# Altium schematic symbol library LVS Library.SchLib: 61 symbols (part 3 of 3)
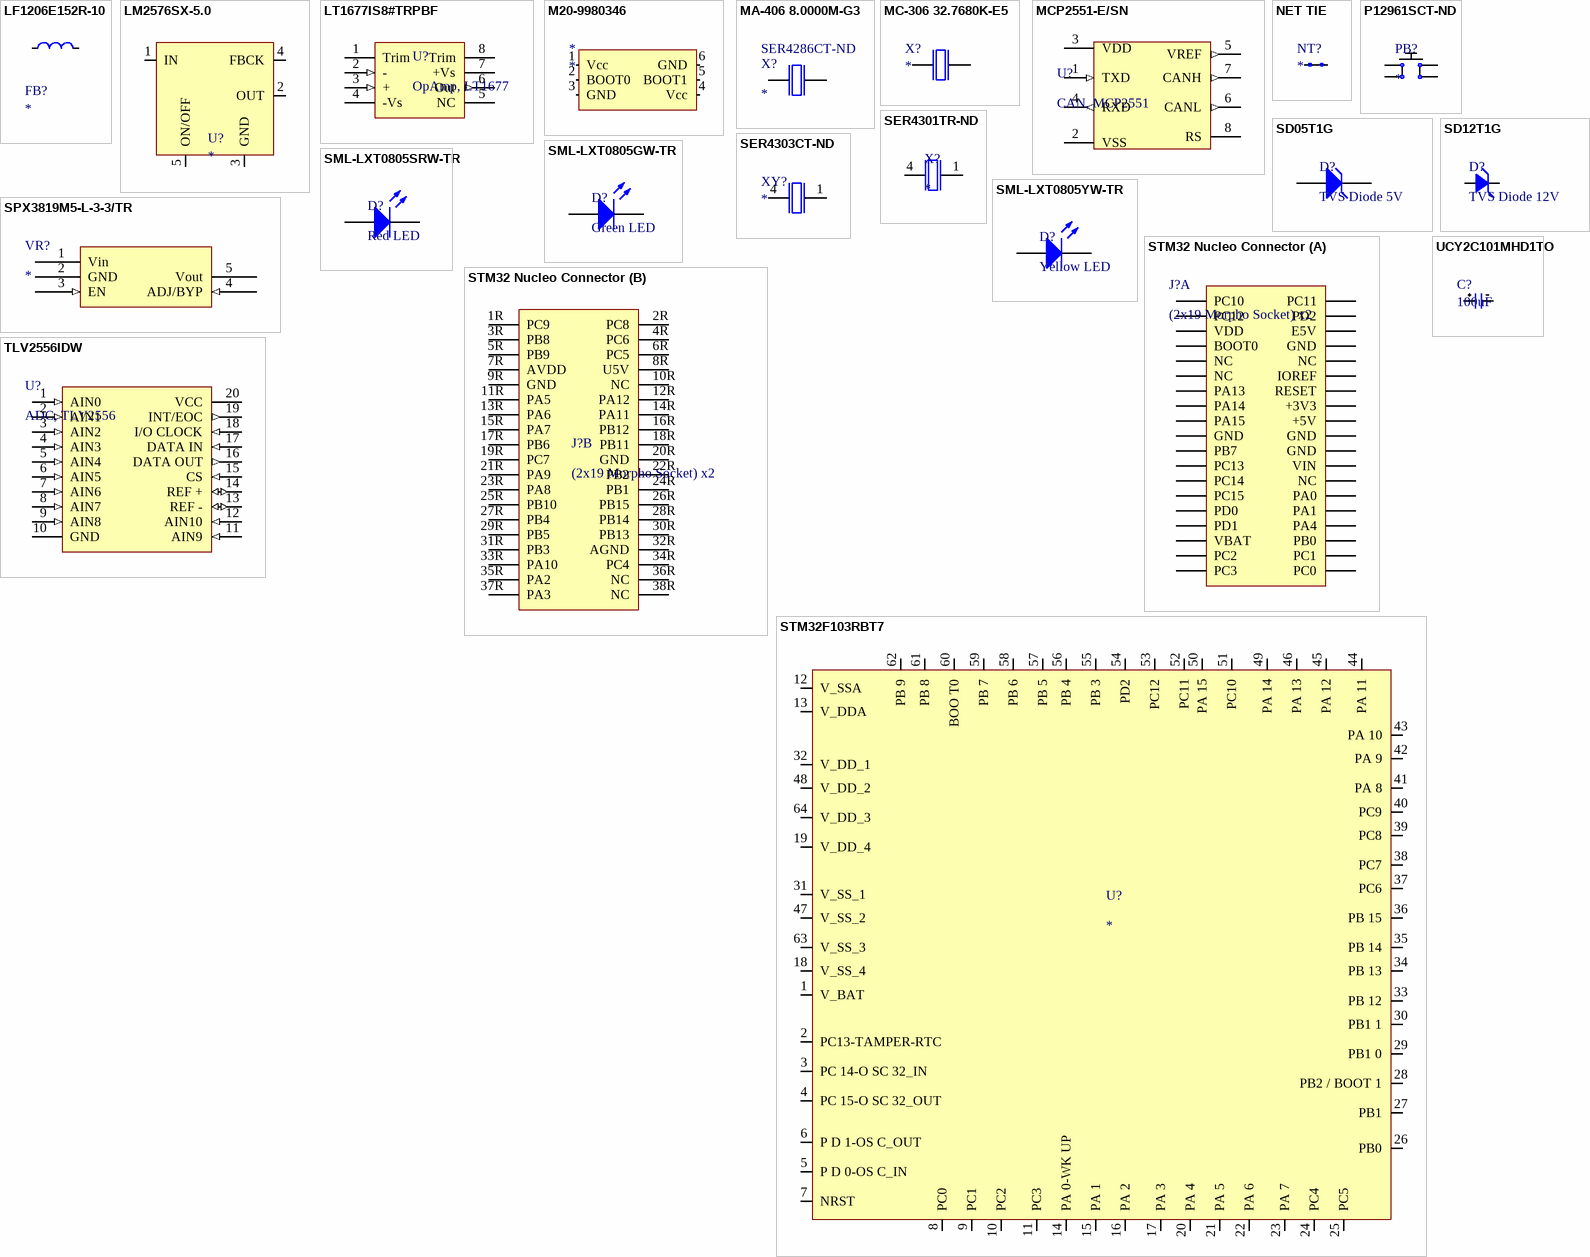
[diagram p3: symbols LF1206E152R-10 to UCY2C101MHD1TO]

## STM32 Nucleo Connector
designator J?, comment (2x19 Morpho Socket) x2
SAMTEC         ESQ-119-24-T-D             Board-To-Board Connector, Vertical, ESQ Series, 38 Contacts, Receptacle, 2.54 mm, Through Hole 123; Number of Contacts: 38; Pitch: 2.54mm; Supplier 1: Digi-Key; Supplier Part Number 1: SAM9313-ND; Manufacturer: Samtec; Manufacturer Part Number: ESQ-119-24-T-D; Stock 1: 71; Pricing 1: 1 = 5.23000, 11 = 4.42182, 110 = 3.41700, 506 = 2.81399, 1001 = 2.61300 (USD); RoHS: Yes; Mount: Through Hole; Contact Plating: Tin; Contact Material: Bronze; Number of Rows: 2; Gender: Receptacle; Termination: Solder; REACH SVHC: No SVHC; Category: Connectors
footprint STM32 Nucleo Footprint]
part A pins: 1L PC10, 2L PC11, 3L PC12, 4L PD2, 5L VDD, 6L E5V, 7L BOOT0, 8L GND, 9L NC, 10L NC, 11L NC, 12L IOREF, 13L PA13, 14L RESET, 15L PA14, 16L +3V3, 17L PA15, 18L +5V, 19L GND, 20L GND, 21L PB7, 22L GND, 23L PC13, 24L VIN, 25L PC14, 26L NC, 27L PC15, 28L PA0, 29L PD0, 30L PA1, 31L PD1, 32L PA4, 33L VBAT, 34L PB0, 35L PC2, 36L PC1, 37L PC3, 38L PC0
part B pins: 1R PC9, 2R PC8, 3R PB8, 4R PC6, 5R PB9, 6R PC5, 7R AVDD, 8R U5V, 9R GND, 10R NC, 11R PA5, 12R PA12, 13R PA6, 14R PA11, 15R PA7, 16R PB12, 17R PB6, 18R PB11, 19R PC7, 20R GND, 21R PA9, 22R PB2, 23R PA8, 24R PB1, 25R PB10, 26R PB15, 27R PB4, 28R PB14, 29R PB5, 30R PB13, 31R PB3, 32R AGND, 33R PA10, 34R PC4, 35R PA2, 36R NC, 37R PA3, 38R NC

## STM32F103RBT7
designator U?
MCU 32-bit STM32F1 ARM Cortex M3 RISC 128KB Flash 2.5V/3.3V 64-Pin LQFP Tray; Manufacturer 1: STMicroelectronics; Manufacturer Part Number 1: STM32F103RBT7; Interface: I2C,SPI,USB,CAN,IrDA,UART,USART,LIN; Data Bus Width: 32b; RAM Size: 20KB; Max Power Dissipation: 444mW; Number of I/Os: 51; Number of Timers/Counters: 4; Frequency: 72MHz; Max Supply Voltage: 3.6V; Min Supply Voltage: 2V; Oscillator Type: Internal; Watchdog Timer: Yes; Peripherals: POR,PWM,WDT,DMA,Temp Sensor; Number of ADC Channels: 16; Number of SPI Channels: 2; Supplier 1: Digi-Key; Stock 1: 1368; Pricing 1: 1=6.30000, 10=5.65500, 100=4.63300, 500=3.94400, 1000=3.32626 (USD); RoHS: Yes; Case/Package: LQFP; Number of Pins: 64; Min Operating Temperature: -40°C; Max Operating Temperature: 105°C; Core Architecture: ARM; Package Quantity: 160; Packaging: Tray; Number of Programmable I/O: 51; Max Frequency: 72MHz; Memory Type: FLASH; Memory Size: 128KB; Number of I2C Channels: 2; Length: 10mm; Height: 1.45mm; Width: 10mm; Radiation Hardening: No; REACH SVHC: No SVHC; ComponentLink1URL: https://media.digikey.com/pdf/Data%20Sheets/ST%20Microelectronics%20PDFS/STM32F103x8,B.pdf?src-supplier=Digi-Key; ComponentLink1Description: https://media.digikey.com/pdf/Data%20Sheets/ST%20Microelectronics%20PDFS/STM32F103x8,B.pdf?src-supplier=Digi-Key; ComponentLink2URL: http://www.mouser.com/ds/2/389/stm32f103c8-956229.pdf?src-supplier=Mouser; ComponentLink2Description: http://www.mouser.com/ds/2/389/stm32f103c8-956229.pdf?src-supplier=Mouser; ComponentLink3URL: http://www.farnell.com/datasheets/1963088.pdf?src-supplier=Farnell; ComponentLink3Description: http://www.farnell.com/datasheets/1963088.pdf?src-supplier=Farnell; ComponentLink4URL: http://uk.rs-online.com/webdocs/0ed0/0900766b80ed015c.pdf?src-supplier=RSComponents; ComponentLink4Description: http://uk.rs-online.com/webdocs/0ed0/0900766b80ed015c.pdf?src-supplier=RSComponents; ComponentLink5URL: http://components.arrow.com/part/dataview/0323_00214153?src-supplier=Arrow+Europe; ComponentLink5Description: http://components.arrow.com/part/dataview/0323_00214153?src-supplier=Arrow+Europe; ComponentLink6URL: http://www.produktinfo.conrad.com/datenblaetter/1000000-1099999/001075570-da-01-en-MCU_32BT_64K_STM32F103RBT7_LQFP_64_STM.pdf?src-supplier=Conrad; ComponentLink6Description: http://www.produktinfo.conrad.com/datenblaetter/1000000-1099999/001075570-da-01-en-MCU_32BT_64K_STM32F103RBT7_LQFP_64_STM.pdf?src-supplier=Conrad; ComponentLink7URL: http://www.farnell.com/datasheets/1963088.pdf?src-supplier=Newark; ComponentLink7Description: http://www.farnell.com/datasheets/1963088.pdf?src-supplier=Newark; ComponentLink8URL: http://www.st.com/web/en/resource/technical/document/datasheet/CD00161566.pdf?src-supplier=Element14; ComponentLink8Description: http://www.st.com/web/en/resource/technical/document/datasheet/CD00161566.pdf?src-supplier=Element14; ComponentLink9URL: http://www.st.com/internet/com/TECHNICAL_RESOURCES/TECHNICAL_LITERATURE/DATASHEET/CD00161566.pdf?src-supplier=Avnet; ComponentLink9Description: http://www.st.com/internet/com/TECHNICAL_RESOURCES/TECHNICAL_LITERATURE/DATASHEET/CD00161566.pdf?src-supplier=Avnet; ComponentLink10URL: http://components.arrow.com/part/dataview/45775055S8555844N7728?src-supplier=Arrow; ComponentLink10Description: http://components.arrow.com/part/dataview/45775055S8555844N7728?src-supplier=Arrow; Supplier Part Number 1: 497-11526-ND
footprint stm32f103rb
pins: 1 V_BAT (power), 2 PC13-TAMPER-RTC (io), 3 PC 14-O SC 32_IN (io), 4 PC 15-O SC 32_OUT (io), 5 P D 0-OS C_IN (in), 6 P D 1-OS C_OUT (out), 7 NRST (io), 8 PC0 (io), 9 PC1 (io), 10 PC2 (io), 11 PC3 (io), 12 V_SSA (power), 13 V_DDA (power), 14 PA 0-WK UP (io), 15 PA 1 (io), 16 PA 2 (io), 17 PA 3 (io), 18 V_SS_4 (power), 19 V_DD_4 (power), 20 PA 4 (io), 21 PA 5 (io), 22 PA 6 (io), 23 PA 7 (io), 24 PC4 (io), 25 PC5 (io), 26 PB0 (io), 27 PB1 (io), 28 PB2 / BOOT 1 (io), 29 PB1 0 (io), 30 PB1 1 (io), 31 V_SS_1 (power), 32 V_DD_1 (power), 33 PB 12 (io), 34 PB 13 (io), 35 PB 14 (io), 36 PB 15 (io), 37 PC6 (io), 38 PC7 (io), 39 PC8 (io), 40 PC9 (io), 41 PA 8 (io), 42 PA 9 (io), 43 PA 10 (io), 44 PA 11 (io), 45 PA 12 (io), 46 PA 13 (io), 47 V_SS_2 (power), 48 V_DD_2 (power), 49 PA 14 (io), 50 PA 15 (io), 51 PC10 (io), 52 PC11 (io), 53 PC12 (io), 54 PD2 (io), 55 PB 3 (io), 56 PB 4 (io), 57 PB 5 (io), 58 PB 6 (io), 59 PB 7 (io), 60 BOO T0 (io), 61 PB 8 (io), 62 PB 9 (io), 63 V_SS_3 (power), 64 V_DD_3 (power)

## TLV2556IDW
designator U?, comment ADC, TLV2556
IC SERIAL ADC 12-BIT 5V 20-SOIC; Manufacturer: Texas Instruments; Manufacturer Part Number: TLV2556IDW; Nominal Supply Current: 3mA; Min Supply Voltage: 2.7V; Max Supply Voltage: 5.5V; Number of Channels: 11; Max Power Dissipation: 2.43mW; Interface: SPI; Number of Bits: 12; Sampling Rate: 200KS/s; Number of Converters: 1; Resolution: 12b; Polarity: Unipolar; Differential Nonlinearity: 1LSB; Supply Type: Single; Supplier 1: Digi-Key; Supplier Part Number 1: 296-12502-5-ND; Stock 1: 5611; Pricing 1: 1 = 10.04000, 10 = 9.06900, 25 = 8.64680, 100 = 7.50800, 500 = 6.53790, 1000 = 5.69430 (USD); RoHS: Yes; Case/Package: SOIC; Number of Pins: 20; Min Operating Temperature: -40°C; Max Operating Temperature: 85°C; Package Quantity: 25; Packaging: Rail/Tube; Number of Elements: 1; Number of A/D Converters: 1; Number of Analog Inputs: 11; Conversion Rate: 200KS/s; Integral Nonlinearity (INL): 1LSB; Number of Inputs: 11; Max Supply Voltage (DC): 5.5V; Min Supply Voltage (DC): 2.7V; Power Consumption: 2.43mW; REACH SVHC: No SVHC; Lead Free: Lead Free; ComponentLink1URL: http://www.ti.com/lit/ds/symlink/tlv2556.pdf?src-supplier=Digi-Key; ComponentLink1Description: http://www.ti.com/lit/ds/symlink/tlv2556.pdf?src-supplier=Digi-Key; ComponentLink2URL: http://www.ti.com/general/docs/lit/getliterature.tsp?genericPartNumber=TLV2556&&fileType=pdf&src-supplier=Avnet; ComponentLink2Description: http://www.ti.com/general/docs/lit/getliterature.tsp?genericPartNumber=TLV2556&&fileType=pdf&src-supplier=Avnet; ComponentLink3URL: http://datasheet.iiic.cc/texas_instruments/TLV2556IDW.pdf?src-supplier=IIIC; ComponentLink3Description: http://datasheet.iiic.cc/texas_instruments/TLV2556IDW.pdf?src-supplier=IIIC; ComponentLink4URL: http://www.produktinfo.conrad.com/datenblaetter/1100000-1199999/001186451-da-01-en-IC_SERIAL_ADC_12__TLV2556IDW_SOIC_20_TID.pdf?src-supplier=Conrad; ComponentLink4Description: http://www.produktinfo.conrad.com/datenblaetter/1100000-1199999/001186451-da-01-en-IC_SERIAL_ADC_12__TLV2556IDW_SOIC_20_TID.pdf?src-supplier=Conrad; Category: Integrated Circuits (ICs)
footprint DW20-L
pins: 1 AIN0 (in), 2 AIN1 (in), 3 AIN2 (in), 4 AIN3 (in), 5 AIN4 (in), 6 AIN5 (in), 7 AIN6 (in), 8 AIN7 (in), 9 AIN8 (in), 10 GND (power), 11 AIN9 (in), 12 AIN10 (in), 13 REF - (io), 14 REF + (io), 15 CS (in), 16 DATA OUT (out), 17 DATA IN (in), 18 I/O CLOCK (in), 19 INT/EOC (out), 20 VCC (power)

## UCY2C101MHD1TO
designator C?, comment 100uF
CAP ALUM 100UF 20% 160V RADIAL; Capacitance: 9pF; Voltage Rating: 100V; Dielectric: C0G; RoHS: Yes; Mount: Surface Mount; Case/Package: 0805; Weight: 0.000194oz; Case Code (Imperial): 0805; Case Code (Metric): 2012; Min Operating Temperature: -55°C; Max Operating Temperature: 125°C; Packaging: Tape and Reel; Package Quantity: 4000; Voltage Rating (DC): 100V; Termination: SMD/SMT; Length: 2.01mm; Width: 1.25mm; Thickness: 0.037inch; Depth: 1.25mm; Radiation Hardening: No; ComponentLink1Description: https://www.digikey.ca/product-detail/en/nichicon/UCY2C101MHD1TO/493-4784-1-ND/3129121; ComponentLink1URL: https://www.digikey.ca/product-detail/en/nichicon/UCY2C101MHD1TO/493-4784-1-ND/3129121; Supplier 1: Digi-Key; Supplier Part Number 1: 493-4784-1-ND
footprint UCY2C101MHD1TO
pins: 1, 2